# Altium schematic symbol library Oscillator_4p.SchLib: 1 symbol
Pins are listed as number, name and electrical type; pins without a type are passive.

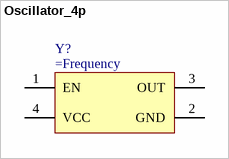
[diagram p0: symbol Oscillator_4p]

## Oscillator_4p
designator Y?
pins: 1 EN, 2 GND, 3 OUT, 4 VCC